# Altium integrated library Astron Card Edge EISA.IntLib: 1 symbol
Pins are listed as number, name and electrical type; pins without a type are passive.

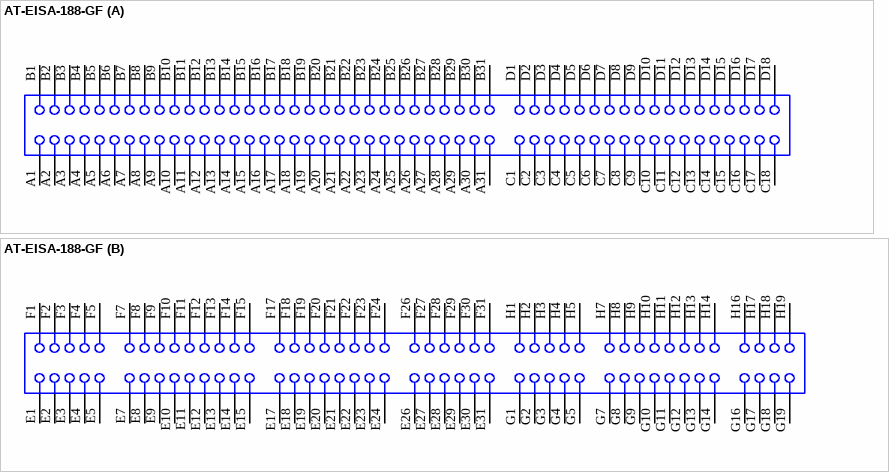
[diagram p0: symbol AT-EISA-188-GF]

## AT-EISA-188-GF
designator J?
EISA Connector, 188 Positions, Vertical, Pitch 1.27mm; ContactPlating: Gold Flash; PCB_Layout: Complies with manufacturer's recommendation.; DrillSize: Corresponds to nominal value.; Note: Access Keys, E6 E16 E25 F6 F16 F25 G6 G15 H6 H15 not shown.; Published: 11-Oct-2004; DatasheetDocument: Feb-1997; PackageDocument: Feb-1997; PackageReference: EISA188; Publisher: Altium Limited; ComponentLink1Description: Manufacturer Link; ComponentLink1URL: http://www.astron.com.tw
footprint EISA188 (Connector; EISA, Thru-Hole; 188 Position; Vertical; Pitch 1.27 mm)
signal-integrity model EISA
part A pins: A1 CHCHK#, A2 SD7, A3 SD6, A4 SD5, A5 SD4, A6 SD3, A7 SD2, A8 SD1, A9 SD0, A10 CHRDY, A11 AEN, A12 SA19, A13 SA18, A14 SA17, A15 SA16, A16 SA15, A17 SA14, A18 SA13, A19 SA12, A20 SA11, A21 SA10, A22 SA9, A23 SA8, A24 SA7, A25 SA6, A26 SA5, A27 SA4, A28 SA3, A29 SA2, A30 SA1, A31 SA0, B1 GND "Ground", B2 RESDRV#, B3 +5V "+5 VDC", B4 IRQ2, B5 -5V, B6 DRQ2, B7 -12V, B8 NOWS#, B9 +12V "+12 VDC", B10 GND, B11 SMWTC#, B12 SMRDC#, B13 IOWC#, B14 IORC#, B15 DAK3#, B16 DRQ3, B17 DAK1#, B18 DRQ1, B19 REFRESH#, B20 BCLK, B21 IRQ7, B22 IRQ6, B23 IRQ5, B24 IRQ4, B25 IRQ3, B26 DAK2#, B27 TC, B28 BALE, B29 +5V "+5 VDC", B30 OSC, B31 GND "Ground", C1 SBHE#, C2 LA23, C3 LA22, C4 LA21, C5 LA20, C6 LA19, C7 LA18, C8 LA17, C9 MRDC#, C10 MWTC#, C11 SD8, C12 SD9, C13 SD10, C14 SD11, C15 SD12, C16 SD13, C17 SD14, C18 SD15, D1 M16#, D2 IO16#, D3 IRQ10, D4 IRQ11, D5 IRQ12, D6 IRQ13, D7 IRQ14, D8 DAK0#, D9 DRQ0, D10 DAK5#, D11 DRQ5, D12 DAK6#, D13 DRQ65, D14 DAK7#, D15 DRQ7, D16 +5V "+5 VDC", D17 MASTER16#, D18 GND "Ground"
part B pins: E1 CMD# "Command Phase", E2 START# "Start Phase", E3 EXRDY "EISA Ready", E4 EX32# "EISA Slave Size 32", E5 GND "Ground", E7 EX16# "EISA Slave Size 16", E8 SLBURST# "Slave Burst", E9 MSBURST# "Master Burst", E10 W/R# "Write/Read", E11 GND "Ground", E12 RES "Reserved", E13 RES "Reserved", E14 RES "Reserved", E15 GND "Ground", E17 BE1# "Byte Enable 1", E18 LA31# "Latchable Addressline 31", E19 GND "Ground", E20 LA30# "Latchable Addressline 30", E21 LA28# "Latchable Addressline 28", E22 LA27# "Latchable Addressline 27", E23 LA25# "Latchable Addressline 25", E24 GND "Ground", E26 LA15 "Latchable Addressline 15", E27 LA13 "Latchable Addressline 13", E28 LA12 "Latchable Addressline 12", E29 LA11 "Latchable Addressline 11", E30 GND "Ground", E31 LA9 "Latchable Addressline 9", F1 GND "Ground", F2 +5V "+5 VDC", F3 +5V "+5 VDC", F4 RES "Reserved", F5 RES "Reserved", F7 RES "Reserved", F8 RES "Reserved", F9 +12V "+12 VDC", F10 M/IO# "Memory/Input-Output", F11 LOCK# "Lock bus", F12 RES "Reserved", F13 GND "Ground", F14 RES "Reserved", F15 BE3# "Byte Enable 3", F17 BE2# "Byte Enable 2", F18 BE0# "Byte Enable 0", F19 GND "Ground", F20 +5V "+5 VDC", F21 LA29# "Latchable Addressline 29", F22 GND "Ground", F23 LA26# "Latchable Addressline 26", F24 LA24# "Latchable Addressline 24", F26 LA16 "Latchable Addressline 16", F27 LA14 "Latchable Addressline 14", F28 +5V "+5 VDC", F29 +5V "+5 VDC", F30 GND "Ground", F31 LA10 "Latchable Addressline 10", G1 LA7 "Latchable Addressline 7", G2 GND "Ground", G3 LA4 "Latchable Addressline 4", G4 LA3 "Latchable Addressline 3", G5 GND "Ground", G7 D17 "Data 17", G8 D19 "Data 19", G9 D20 "Data 20", G10 D22 "Data 22", G11 GND "Ground", G12 D25 "Data 25", G13 D26 "Data 26", G14 D28 "Data 28", G16 GND "Ground", G17 D30 "Data 30", G18 D31 "Data 31", G19 MREQx "Master Request", H1 LA8 "Latchable Addressline 8", H2 LA6 "Latchable Addressline 6", H3 LA5 "Latchable Addressline 5", H4 +5V "+5 VDC", H5 LA2 "Latchable Addressline 2", H7 D16 "Data 16", H8 D18 "Data 18", H9 GND "Ground", H10 D21 "Data 21", H11 D23 "Data 23", H12 D24 "Data 24", H13 GND "Ground", H14 D27 "Data 27", H16 D29 "Data 29", H17 +5V "+5 VDC", H18 +5V "+5 VDC", H19 MAKx "Master Acknowledge"